# Altium schematic symbol library 5-535541-6.SchLib: 1 symbol
Pins are listed as number, name and electrical type; pins without a type are passive.

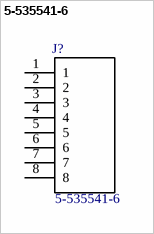
[diagram p0: symbol 5-535541-6]

## 5-535541-6
designator J?
Value: *
footprint *TE_5-535541-6
pins: 1, 2, 3, 4, 5, 6, 7, 8